# EAGLE library part PDI_ATMEL (library robotter_connector)
Ref Harting : 09 18 506 7323 Atmel pdi connector
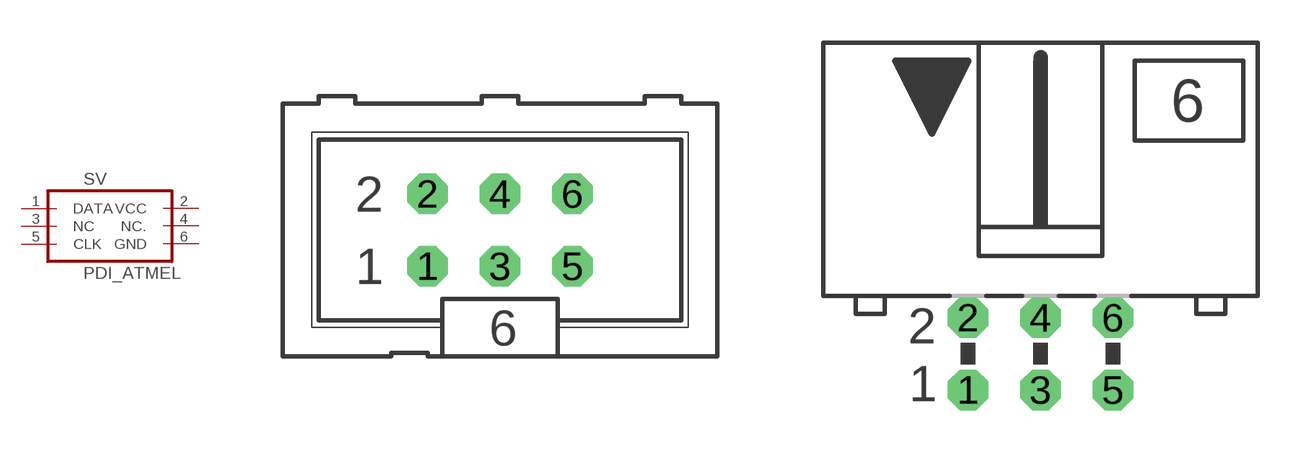
[diagram p2: symbol with the pads of ML6; footprints ML6, ML6L]

Designator prefix SV

## PDI_ATMEL (MOUSER: 617-09185066323)  [ML6]
1  DATA  pas
2  VCC  pas
3  NC  pas
4  NC.  pas
5  CLK  pas
6  GND  pas

## PDI_ATMELL (MOUSER: 617-09-18-506-7323; RS: 693-5242)  [ML6L]
Pads as for ML6

## Footprint ML6 (pad centres in mm)
HARTING
drill 0.914 octagon: 1 -2.54,-1.27; 2 -2.54,1.27; 3 0,-1.27; 4 0,1.27; 5 2.54,-1.27; 6 2.54,1.27

## Footprint ML6L (pad centres in mm)
HARTING
drill 0.914 octagon: 1 -2.54,-1.27; 2 -2.54,1.27; 3 0,-1.27; 4 0,1.27; 5 2.54,-1.27; 6 2.54,1.27